# Altium schematic symbol library Diodes.SchLib: 4 symbols
Pins are listed as number, name and electrical type; pins without a type are passive.

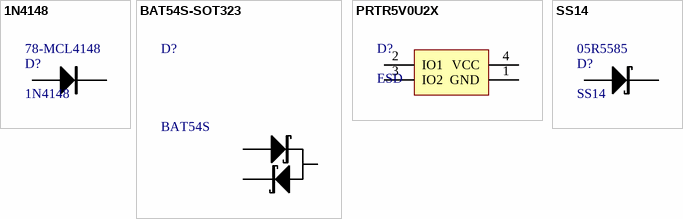
[diagram p0: symbols 1N4148 to SS14]

## 1N4148
designator D?  Supplier Part Number 1: 78-MCL4148
Small Signal Fast Switching Diodes; Repetitive peak reverse voltage: 100 V; Reverse voltage: 75 V; Peak forward surge current: 2 A; Repetitive peak forward current: 500 mA; Forward continuous current: 300 mA; Average forward current: 150 mA; Diode capacitance: 4 pF; Reverse recovery time: 4 ~ 8 ns; Supplier 1: Mouser
footprint SOD80
footprint SOD123F (Molded Diode, 2-Leads, Body 2,60x1,60mm, IPC Medium Density)
pins: 1 A, 2 K

## BAT54S-SOT323
designator D?, comment BAT54S
DUAL SCHOTTKY DIODE SERIES; Manufacturer: NXP Semiconductors; Manufacturer Part Number: BAT54SW,115; Voltage - Forward (Vf) (Max) @ If: 800mV @ 100mA; Current - Reverse Leakage @ Vr: 2µA @ 25V; Speed: Small Signal =< 200mA (Io), Any Speed; Diode Configuration: 1 Pair Series Connection; Current - Average Rectified (Io) (per Diode): 200mA (DC); Voltage - DC Reverse (Vr) (Max): 30V; Reverse Recovery Time (trr): 5ns; Supplier 1: Digi-Key; Supplier Part Number 1: 568-1615-2-ND; Mounting Type: Surface Mount; Packaging: Tape & Reel (TR); Package / Case: SC-70-3, SOT-323-3; Diode Type: Schottky; Supplier Part Number: 568-1615-2-ND; Category: Discrete Semiconductor Products; Supplier: Digi-Key; RoHS: RoHS Compliant
footprint SOT23
pins: 1, 2, 3

## PRTR5V0U2X
designator D?, comment ESD
Ultra low capacitance rail-to-rail ElectroStatic Discharge (ESD) protection diode; VRWM reverse standoff voltage: 5.5V; input/output to ground: 1.5pF; supply pin to ground: 16pF
footprint SOT143 (SOT143, 4-Leads, Body 2,90x2,37mm, Pitch 1,90mm, IPC Medium Density)
pins: 1 GND, 2 IO1, 3 IO2, 4 VCC

## SS14
designator D?  Supplier Part Number 1: 05R5585
Surface Mount Schottky Barrier Rectifier; If (av): 1.0A; Vrrm: 40V; Ifsm: 40A; Vf: 0.5 ~ 0.75V; Supplier 1: Newark
footprint SMA (SMA Diode)
pins: A, K